# Altium schematic symbol library ERJ-PB3B2671V.SchLib: 1 symbol
Pins are listed as number, name and electrical type; pins without a type are passive.

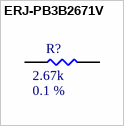
[diagram p0: symbol ERJ-PB3B2671V]

## ERJ-PB3B2671V
designator R?  Tolerance: 0.1 %  Resistance: 2.67k  (hidden comment: ERJ-PB3B2671V)
RES SMD 2.67K OHM 0.1% 1/5W 0603; MFR: Panasonic; Qualifications: AEC-Q200; ComponentLink1Description: Datasheet; ComponentLink1URL: https://www.mouser.ca/datasheet/2/315/AOA0000C328-1530132.pdf; PN: ERJ-PB3B2671V; Footprint: RES0603; Supplier 1: Digi-Key; Supplier Part Number 1: P20018CT-ND; Power Rating: 1/5W; Package: 0603
footprint RES0603 (Generic 0603)
pins: 1, 2